# Altium footprint library 74AC04MTC.PcbLib: 1 footprints
Each footprint in its own frame and in the unit in brackets; x right, y up, seen from the top. Pads: shape width x height; smd on the part's side, far side on the other; paste and mask are expansions set on the pad; w line width, h text height; cw(c..) or ccw(c..) is an arc to the next point about the centre after c.
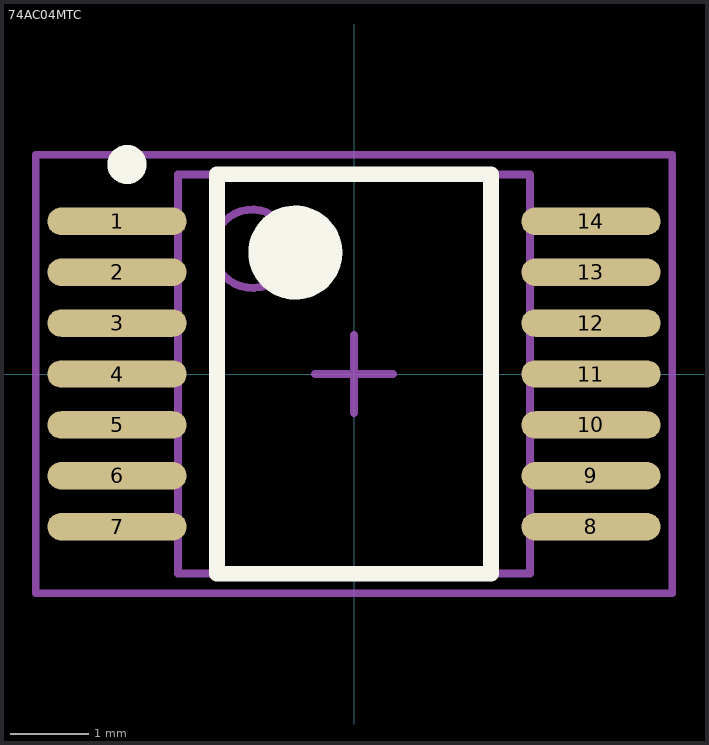
[diagram p0: the footprint, top view; thin cyan lines are the x and y axes]

## 74AC04MTC [mm] "FAIRCHILD SEMICONDUCTOR - 74AC04MTC - IC, SM, LOGIC, 74AC, HEX INVERTER"
height 1.2
pads (14):
  oval 1.78x0.35 smd: 1(-3.027,1.95) 2(-3.027,1.3) 3(-3.027,0.65) 4(-3.027,0) 5(-3.027,-0.65) 6(-3.027,-1.3) 7(-3.027,-1.95) 8(3.027,-1.95) 9(3.027,-1.3) 10(3.027,-0.65) 11(3.027,0) 12(3.027,0.65) 13(3.027,1.3) 14(3.027,1.95)
Top Overlay:
  circle w0.6: c-0.75,1.55 r0.3
  circle w0.25: c-2.9,2.675 r0.125
  lines w0.2: -1.75,-2.55 1.75,-2.55 1.75,2.55 -1.75,2.55 -1.75,-2.55
Mechanical 13:
  circle w0.1: c-1.3,1.6 r0.5
  lines w0.1: -2.25,-2.55 2.25,-2.55 2.25,2.55 -2.25,2.55 -2.25,-2.55
Mechanical 15:
  lines w0.1: -0.5,0 0.5,0 ; 0,-0.5 0,0.5 ; -4.064,-2.8 4.064,-2.8 4.064,2.8 -4.064,2.8 -4.064,-2.8
3D body: height 1.2, standoff 0.15, extent -2.25,-2.55 2.25,2.55